# Altium footprint library Capacitor_THT.PcbLib: 378 footprints (part 9 of 24)
Each footprint in its own frame and in the unit in brackets; x right, y up, seen from the top. Pads: shape width x height; smd on the part's side, far side on the other; paste and mask are expansions set on the pad; w line width, h text height; cw(c..) or ccw(c..) is an arc to the next point about the centre after c.
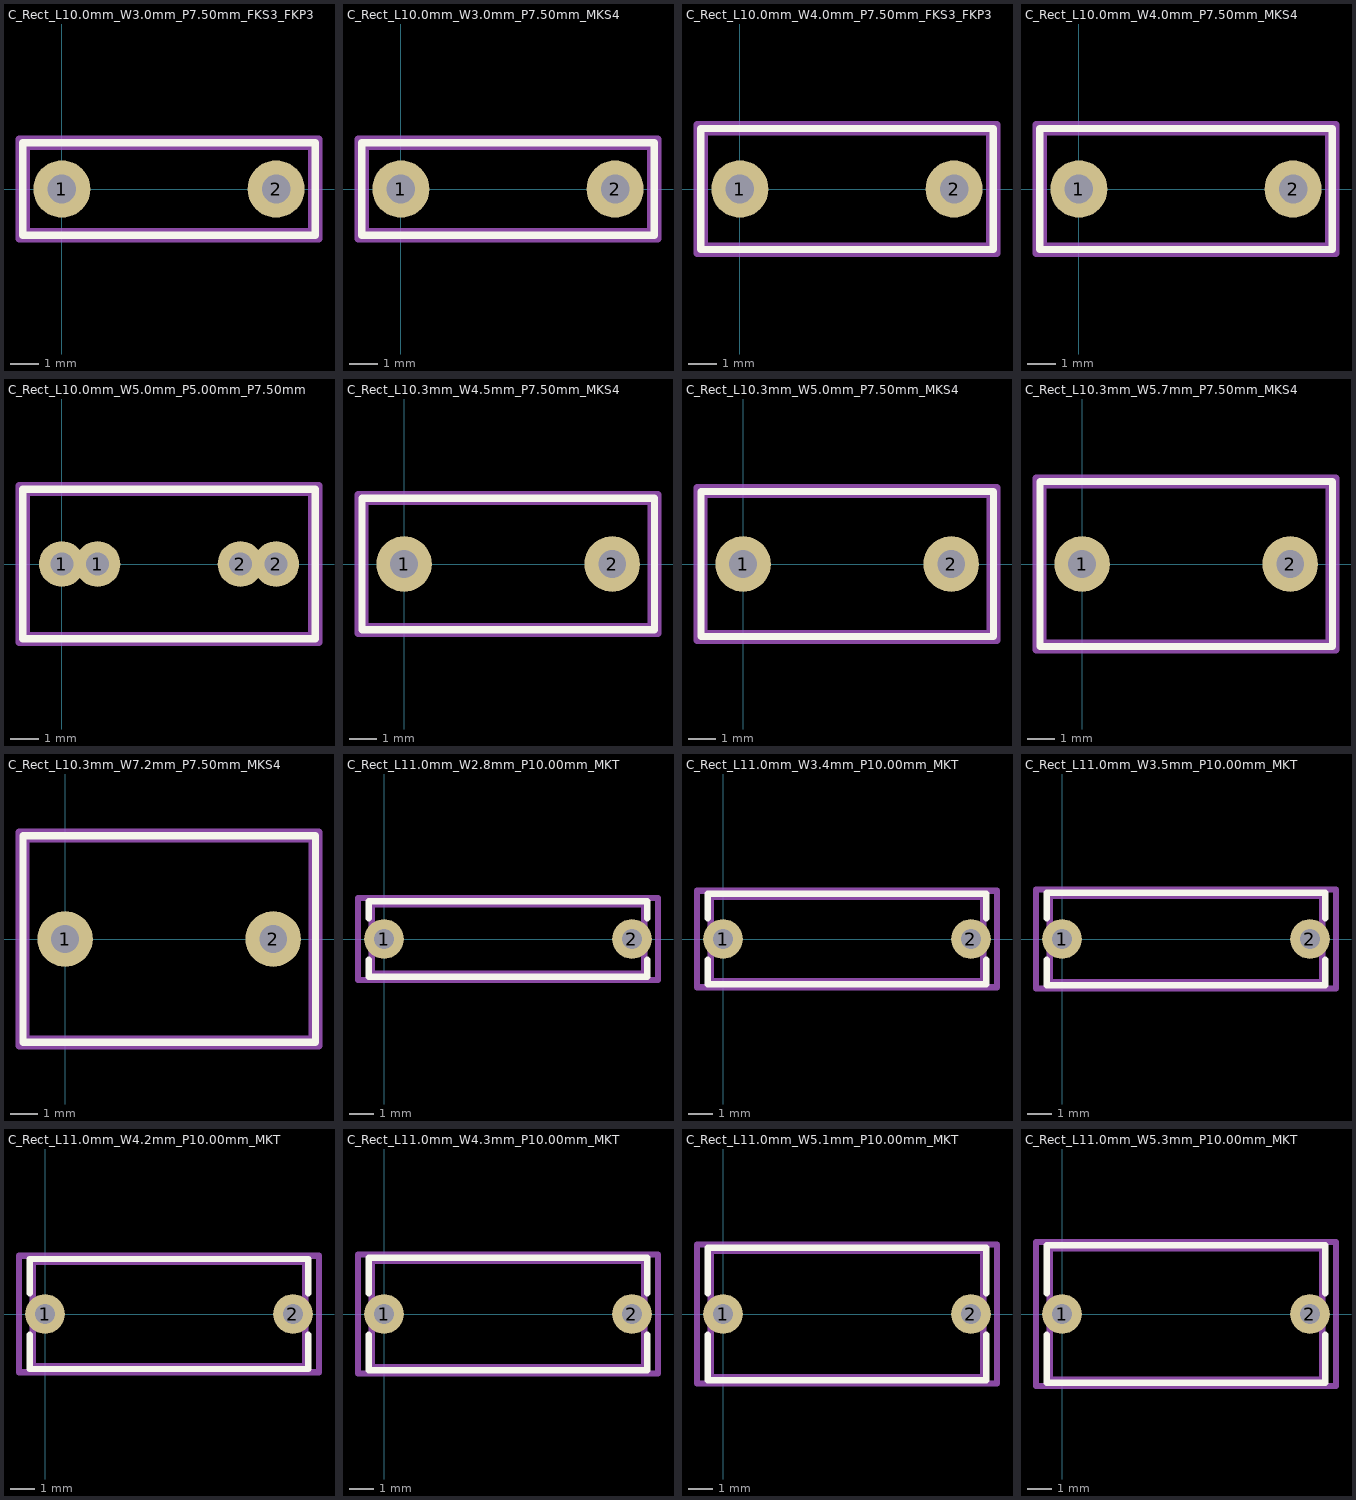
[diagram p8: the footprints below, top view; thin cyan lines are the x and y axes]

## C_Rect_L10.0mm_W3.0mm_P7.50mm_FKS3_FKP3 [mm]
pads (2):
  round 2 hole 1: 1(0,0) 2(7.5,0)
F.SilkS:
  lines w0.254: -1.37,-1.62 8.87,-1.62 8.87,1.62 -1.37,1.62 -1.37,-1.62
Top Assembly:
  lines w0.254: -1.25,-1.5 8.75,-1.5 8.75,1.5 -1.25,1.5 -1.25,-1.5
  text "'.Designator'" at -0.297,-0.84 h1
Top Courtyard:
  lines w0.254: -1.5,-1.75 9,-1.75 9,1.75 -1.5,1.75 -1.5,-1.75
Top Designator:
  text ".Designator" at -3.868,-0.508 h1.52

## C_Rect_L10.0mm_W3.0mm_P7.50mm_MKS4 [mm]
pads (2):
  round 2 hole 1: 1(0,0) 2(7.5,0)
F.SilkS:
  lines w0.254: -1.37,-1.62 8.87,-1.62 8.87,1.62 -1.37,1.62 -1.37,-1.62
Top Assembly:
  lines w0.254: -1.25,-1.5 8.75,-1.5 8.75,1.5 -1.25,1.5 -1.25,-1.5
  text "'.Designator'" at -0.297,-0.84 h1
Top Courtyard:
  lines w0.254: -1.5,-1.75 9,-1.75 9,1.75 -1.5,1.75 -1.5,-1.75
Top Designator:
  text ".Designator" at -3.868,-0.508 h1.52

## C_Rect_L10.0mm_W4.0mm_P7.50mm_FKS3_FKP3 [mm]
pads (2):
  round 2 hole 1: 1(0,0) 2(7.5,0)
F.SilkS:
  lines w0.254: -1.37,-2.12 8.87,-2.12 8.87,2.12 -1.37,2.12 -1.37,-2.12
Top Assembly:
  lines w0.254: -1.25,-2 8.75,-2 8.75,2 -1.25,2 -1.25,-2
  text "'.Designator'" at -0.297,-0.84 h1
Top Courtyard:
  lines w0.254: -1.5,-2.25 9,-2.25 9,2.25 -1.5,2.25 -1.5,-2.25
Top Designator:
  text ".Designator" at -3.868,-0.508 h1.52

## C_Rect_L10.0mm_W4.0mm_P7.50mm_MKS4 [mm]
pads (2):
  round 2 hole 1: 1(0,0) 2(7.5,0)
F.SilkS:
  lines w0.254: -1.37,-2.12 8.87,-2.12 8.87,2.12 -1.37,2.12 -1.37,-2.12
Top Assembly:
  lines w0.254: -1.25,-2 8.75,-2 8.75,2 -1.25,2 -1.25,-2
  text "'.Designator'" at -0.297,-0.84 h1
Top Courtyard:
  lines w0.254: -1.5,-2.25 9,-2.25 9,2.25 -1.5,2.25 -1.5,-2.25
Top Designator:
  text ".Designator" at -3.868,-0.508 h1.52

## C_Rect_L10.0mm_W5.0mm_P5.00mm_P7.50mm [mm]
pads (4):
  round 1.6 hole 0.8: 1(0,0) 1(1.25,0) 2(6.25,0) 2(7.5,0)
F.SilkS:
  lines w0.254: -1.37,-2.62 8.87,-2.62 8.87,2.62 -1.37,2.62 -1.37,-2.62
Top Assembly:
  lines w0.254: -1.25,-2.5 8.75,-2.5 8.75,2.5 -1.25,2.5 -1.25,-2.5
  text "'.Designator'" at -1.547,-0.84 h1
Top Courtyard:
  lines w0.254: -1.5,-2.75 9,-2.75 9,2.75 -1.5,2.75 -1.5,-2.75
Top Designator:
  text ".Designator" at -3.902,-0.508 h1.52

## C_Rect_L10.3mm_W4.5mm_P7.50mm_MKS4 [mm]
pads (2):
  round 2 hole 1: 1(0,0) 2(7.5,0)
F.SilkS:
  lines w0.254: -1.52,-2.37 9.02,-2.37 9.02,2.37 -1.52,2.37 -1.52,-2.37
Top Assembly:
  lines w0.254: -1.4,-2.25 8.9,-2.25 8.9,2.25 -1.4,2.25 -1.4,-2.25
  text "'.Designator'" at -0.297,-0.84 h1
Top Courtyard:
  lines w0.254: -1.66,-2.5 9.15,-2.5 9.15,2.5 -1.66,2.5 -1.66,-2.5
Top Designator:
  text ".Designator" at -3.873,-0.508 h1.52

## C_Rect_L10.3mm_W5.0mm_P7.50mm_MKS4 [mm]
pads (2):
  round 2 hole 1: 1(0,0) 2(7.5,0)
F.SilkS:
  lines w0.254: -1.52,-2.62 9.02,-2.62 9.02,2.62 -1.52,2.62 -1.52,-2.62
Top Assembly:
  lines w0.254: -1.4,-2.5 8.9,-2.5 8.9,2.5 -1.4,2.5 -1.4,-2.5
  text "'.Designator'" at -0.297,-0.84 h1
Top Courtyard:
  lines w0.254: -1.66,-2.75 9.15,-2.75 9.15,2.75 -1.66,2.75 -1.66,-2.75
Top Designator:
  text ".Designator" at -3.873,-0.508 h1.52

## C_Rect_L10.3mm_W5.7mm_P7.50mm_MKS4 [mm]
pads (2):
  round 2 hole 1: 1(0,0) 2(7.5,0)
F.SilkS:
  lines w0.254: -1.52,-2.97 9.02,-2.97 9.02,2.97 -1.52,2.97 -1.52,-2.97
Top Assembly:
  lines w0.254: -1.4,-2.85 8.9,-2.85 8.9,2.85 -1.4,2.85 -1.4,-2.85
  text "'.Designator'" at -0.297,-0.84 h1
Top Courtyard:
  lines w0.254: -1.66,-3.1 9.15,-3.1 9.15,3.1 -1.66,3.1 -1.66,-3.1
Top Designator:
  text ".Designator" at -3.873,-0.508 h1.52

## C_Rect_L10.3mm_W7.2mm_P7.50mm_MKS4 [mm]
pads (2):
  round 2 hole 1: 1(0,0) 2(7.5,0)
F.SilkS:
  lines w0.254: -1.52,-3.72 9.02,-3.72 9.02,3.72 -1.52,3.72 -1.52,-3.72
Top Assembly:
  lines w0.254: -1.4,-3.6 8.9,-3.6 8.9,3.6 -1.4,3.6 -1.4,-3.6
  text "'.Designator'" at -0.297,-0.84 h1
Top Courtyard:
  lines w0.254: -1.66,-3.85 9.15,-3.85 9.15,3.85 -1.66,3.85 -1.66,-3.85
Top Designator:
  text ".Designator" at -3.873,-0.508 h1.52

## C_Rect_L11.0mm_W2.8mm_P10.00mm_MKT [mm]
pads (2):
  round 1.6 hole 0.8: 1(0,0) 2(10,0)
F.SilkS:
  lines w0.254: -0.62,-0.835 -0.62,-1.52 10.62,-1.52 10.62,-0.835 ; -0.62,0.835 -0.62,1.52 10.62,1.52 10.62,0.835
Top Assembly:
  lines w0.254: -0.5,-1.4 10.5,-1.4 10.5,1.4 -0.5,1.4 -0.5,-1.4
  text "'.Designator'" at 0.953,-0.84 h1
Top Courtyard:
  lines w0.254: -1.05,-1.65 11.05,-1.65 11.05,1.65 -1.05,1.65 -1.05,-1.65
Top Designator:
  text ".Designator" at -2.618,-0.508 h1.52

## C_Rect_L11.0mm_W3.4mm_P10.00mm_MKT [mm]
pads (2):
  round 1.6 hole 0.8: 1(0,0) 2(10,0)
F.SilkS:
  lines w0.254: -0.62,-0.835 -0.62,-1.82 10.62,-1.82 10.62,-0.835 ; -0.62,0.835 -0.62,1.82 10.62,1.82 10.62,0.835
Top Assembly:
  lines w0.254: -0.5,-1.7 10.5,-1.7 10.5,1.7 -0.5,1.7 -0.5,-1.7
  text "'.Designator'" at 0.953,-0.84 h1
Top Courtyard:
  lines w0.254: -1.05,-1.95 11.05,-1.95 11.05,1.95 -1.05,1.95 -1.05,-1.95
Top Designator:
  text ".Designator" at -2.618,-0.508 h1.52

## C_Rect_L11.0mm_W3.5mm_P10.00mm_MKT [mm]
pads (2):
  round 1.6 hole 0.8: 1(0,0) 2(10,0)
F.SilkS:
  lines w0.254: -0.62,-0.835 -0.62,-1.87 10.62,-1.87 10.62,-0.835 ; -0.62,0.835 -0.62,1.87 10.62,1.87 10.62,0.835
Top Assembly:
  lines w0.254: -0.5,-1.75 10.5,-1.75 10.5,1.75 -0.5,1.75 -0.5,-1.75
  text "'.Designator'" at 0.953,-0.84 h1
Top Courtyard:
  lines w0.254: -1.05,-2 11.05,-2 11.05,2 -1.05,2 -1.05,-2
Top Designator:
  text ".Designator" at -2.618,-0.508 h1.52

## C_Rect_L11.0mm_W4.2mm_P10.00mm_MKT [mm]
pads (2):
  round 1.6 hole 0.8: 1(0,0) 2(10,0)
F.SilkS:
  lines w0.254: -0.62,-0.835 -0.62,-2.22 10.62,-2.22 10.62,-0.835 ; -0.62,0.835 -0.62,2.22 10.62,2.22 10.62,0.835
Top Assembly:
  lines w0.254: -0.5,-2.1 10.5,-2.1 10.5,2.1 -0.5,2.1 -0.5,-2.1
  text "'.Designator'" at 0.953,-0.84 h1
Top Courtyard:
  lines w0.254: -1.05,-2.35 11.05,-2.35 11.05,2.35 -1.05,2.35 -1.05,-2.35
Top Designator:
  text ".Designator" at -2.618,-0.508 h1.52

## C_Rect_L11.0mm_W4.3mm_P10.00mm_MKT [mm]
pads (2):
  round 1.6 hole 0.8: 1(0,0) 2(10,0)
F.SilkS:
  lines w0.254: -0.62,-0.835 -0.62,-2.27 10.62,-2.27 10.62,-0.835 ; -0.62,0.835 -0.62,2.27 10.62,2.27 10.62,0.835
Top Assembly:
  lines w0.254: -0.5,-2.15 10.5,-2.15 10.5,2.15 -0.5,2.15 -0.5,-2.15
  text "'.Designator'" at 0.953,-0.84 h1
Top Courtyard:
  lines w0.254: -1.05,-2.4 11.05,-2.4 11.05,2.4 -1.05,2.4 -1.05,-2.4
Top Designator:
  text ".Designator" at -2.618,-0.508 h1.52

## C_Rect_L11.0mm_W5.1mm_P10.00mm_MKT [mm]
pads (2):
  round 1.6 hole 0.8: 1(0,0) 2(10,0)
F.SilkS:
  lines w0.254: -0.62,-0.835 -0.62,-2.67 10.62,-2.67 10.62,-0.835 ; -0.62,0.835 -0.62,2.67 10.62,2.67 10.62,0.835
Top Assembly:
  lines w0.254: -0.5,-2.55 10.5,-2.55 10.5,2.55 -0.5,2.55 -0.5,-2.55
  text "'.Designator'" at 0.953,-0.84 h1
Top Courtyard:
  lines w0.254: -1.05,-2.8 11.05,-2.8 11.05,2.8 -1.05,2.8 -1.05,-2.8
Top Designator:
  text ".Designator" at -2.618,-0.508 h1.52

## C_Rect_L11.0mm_W5.3mm_P10.00mm_MKT [mm]
pads (2):
  round 1.6 hole 0.8: 1(0,0) 2(10,0)
F.SilkS:
  lines w0.254: -0.62,-0.835 -0.62,-2.77 10.62,-2.77 10.62,-0.835 ; -0.62,0.835 -0.62,2.77 10.62,2.77 10.62,0.835
Top Assembly:
  lines w0.254: -0.5,-2.65 10.5,-2.65 10.5,2.65 -0.5,2.65 -0.5,-2.65
  text "'.Designator'" at 0.953,-0.84 h1
Top Courtyard:
  lines w0.254: -1.05,-2.9 11.05,-2.9 11.05,2.9 -1.05,2.9 -1.05,-2.9
Top Designator:
  text ".Designator" at -2.618,-0.508 h1.52